# EAGLE library part MCP3425 (library G1Tech-Integrated-Circuits)
IC ADC 16BIT I2C PROGBL SOT23-6
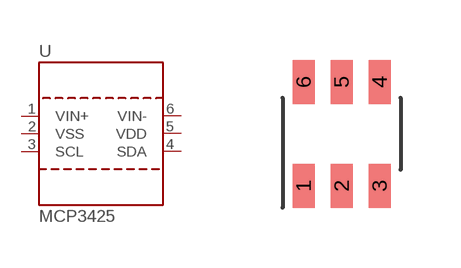
[diagram p3: symbol with the pads of SOT23-6; footprint SOT23-6]

Designator prefix U

## MCP3425  [SOT23-6]
1  VIN+  in
2  VSS  pwr
3  SCL
4  SDA
5  VDD  pwr
6  VIN-  in

## Footprint SOT23-6 (pad centres in mm)
smd 0.55 x 1.1: 1 -0.95,-1.3; 2 0,-1.3; 3 0.95,-1.3; 4 0.95,1.3; 5 0,1.3; 6 -0.95,1.3